# Altium schematic symbol library 24LC32AT.SchLib: 1 symbol
Pins are listed as number, name and electrical type; pins without a type are passive.

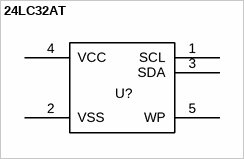
[diagram p0: symbol 24LC32AT]

## 24LC32AT
designator U?
pins: 1 SCL, 2 VSS, 3 SDA, 4 VCC, 5 WP